# Altium footprint library LCD_16x2.PcbLib: 2 footprints
Each footprint in its own frame and in the unit in brackets; x right, y up, seen from the top. Pads: shape width x height; smd on the part's side, far side on the other; paste and mask are expansions set on the pad; w line width, h text height; cw(c..) or ccw(c..) is an arc to the next point about the centre after c.
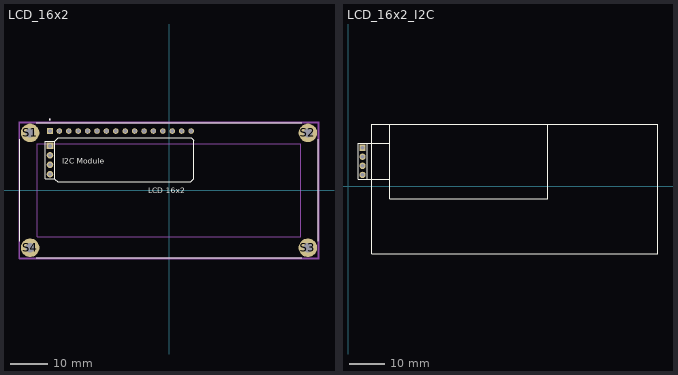
[diagram p0: the footprints below, top view; thin cyan lines are the x and y axes]

## LCD_16x2 [mm]
pads (24):
  rect 1.508x1.508 hole 1: 1(-32.14,16)
  round 1.508 hole 1: 2(-29.6,16) 3(-27.06,16) 4(-24.52,16) 5(-21.98,16) 6(-19.44,16) 7(-16.9,16) 8(-14.36,16) 9(-11.82,16) 10(-9.28,16) 11(-6.74,16) 12(-4.2,16) 13(-1.66,16) 14(0.88,16) 15(3.42,16) 16(5.96,16)
  rect 1.778x1.778 hole 1.016: GND(-32.14,11.977)
  round 5 hole 2.5: S1(-37.5,15.5) S2(37.5,15.5) S3(37.5,-15.5) S4(-37.5,-15.5)
  round 1.778 hole 1.016: SCL(-32.14,4.357) SDA(-32.14,6.897) VCC(-32.14,9.437)
Top Overlay:
  circle w0.2: c-32.2,19.1 r0.1
  lines w0.127: -40.25,-13.8 -40.25,13.8 ; -35.8,-18.25 35.8,-18.25 ; -35.8,18.25 35.8,18.25 ; 40.25,-13.8 40.25,13.8
  lines w0.2: -30.87,13.247 -30.87,3.087 -33.41,3.087 -33.41,13.247 -30.822,13.247
  lines w0.254: -30.861,3.048 -30.099,2.286 5.842,2.286 6.731,3.175 6.731,13.462 5.969,14.224 -29.845,14.224 -30.822,13.247
  text "I2C Module" at -28.829,7.112 h1.52
  text "LCD 16x2" at -5.588,-0.762 h1.52
Mechanical 13:
  circle w0.2: c-32.2,19.1 r0.1
  lines w0.127: -40.25,-18.25 40.25,-18.25 40.25,18.25 -40.25,18.25 -40.25,-18.25 ; -35.6,-12.6 35.6,-12.6 35.6,12.6 -35.6,12.6 -35.6,-12.6
Mechanical 15:
  lines w0.05: -40.5,-18.5 40.5,-18.5 40.5,18.5 -40.5,18.5 -40.5,-18.5
3D body "LCD_16x2.STEP": height 10.68, standoff -2.82, extent -40.127,-18 39.873,18

## LCD_16x2_I2C [mil]
pads (4):
  rect 70x70 hole 40: 1(155,425)
  round 70 hole 40: 2(155,325) 3(155,225) 4(155,125)
Top Overlay:
  lines w7.87: 105,75 205,75 205,475 105,475 105,75
  lines w10: 105,75 455,75 455,475 105,475 105,75 ; 255,-740 3405,-740 3405,680 255,680 255,-740 ; 455,-135 2190,-135 2190,680 455,680 455,-135
3D body "LCDmodule I2C.STEP": height 640.55, standoff -97.64, extent 145,-737.32 3402.87,680
3D body "2.54X2_pinheader_male.SLDPRT": height 326.77, standoff -224.41, extent 105.01,74.99 205.01,274.99
3D body "2.54X2_pinheader_male.SLDPRT": height 326.77, standoff -224.41, extent 105.01,274.99 205.01,474.99